# EAGLE library part ADF7012BRUZ-RL7 (library Analog Devices)
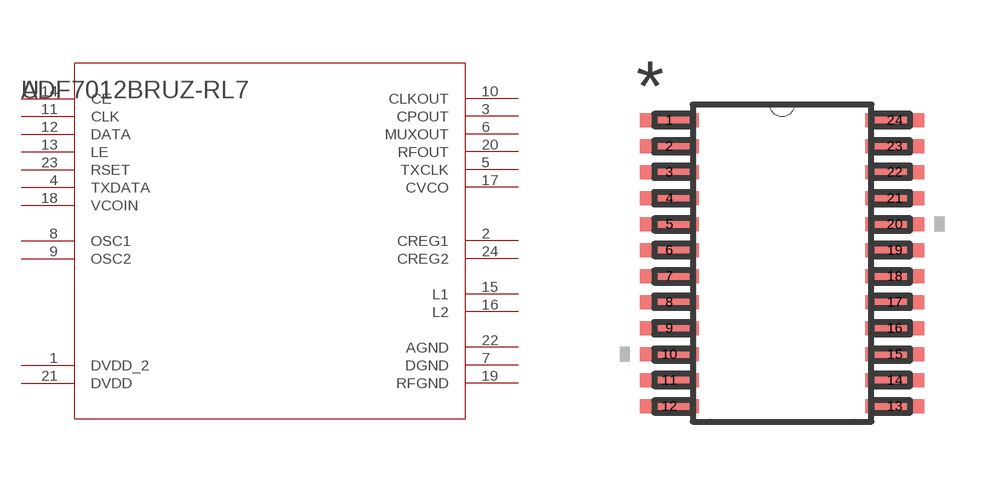
[diagram p7: symbol with the pads of RU_24; footprint RU_24]

Designator prefix U

## ADF7012BRUZ-RL7  [RU_24]
1  DVDD_2  pwr
2  CREG1  pas
3  CPOUT  pas
4  TXDATA  pas
5  TXCLK  pas
6  MUXOUT  pas
7  DGND  pas
8  OSC1  pas
9  OSC2  pas
10  CLKOUT  pas
11  CLK  pas
12  DATA  pas
13  LE  pas
14  CE  pas
15  L1  pas
16  L2  pas
17  CVCO  pas
18  VCOIN  pas
19  RFGND  pas
20  RFOUT  pas
21  DVDD  pwr
22  AGND  pas
23  RSET  pas
24  CREG2  pas

## Footprint RU_24 (pad centres in mm)
smd 1.473 x 0.356: 1 -2.819,3.575; 2 -2.819,2.925; 3 -2.819,2.275; 4 -2.819,1.625; 5 -2.819,0.975; 6 -2.819,0.325; 7 -2.819,-0.325; 8 -2.819,-0.975; 9 -2.819,-1.625; 10 -2.819,-2.275; 11 -2.819,-2.925; 12 -2.819,-3.575; 13 2.819,-3.575; 14 2.819,-2.925; 15 2.819,-2.275; 16 2.819,-1.625; 17 2.819,-0.975; 18 2.819,-0.325; 19 2.819,0.325; 20 2.819,0.975; 21 2.819,1.625; 22 2.819,2.275; 23 2.819,2.925; 24 2.819,3.575